# EAGLE library part HDSP-F*3 (library LED displeje)
LED displej 10 mm
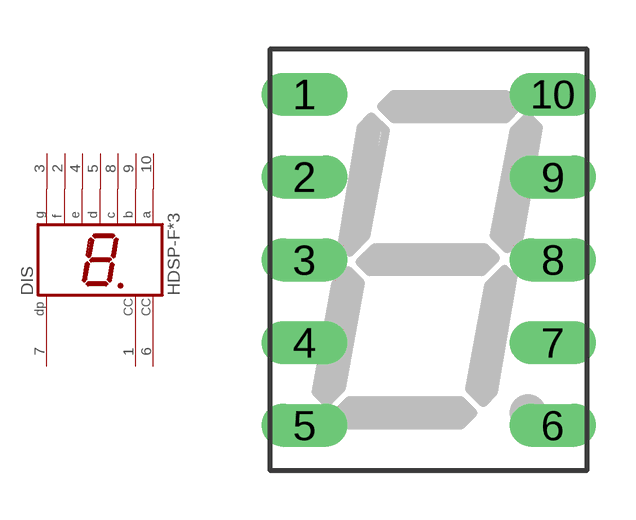
[diagram p49: symbol with the pads of HDSP-B; footprint HDSP-B]

Designator prefix DIS

## HDSP-F153, HDSP-F203, HDSP-F503  [HDSP-B]
1  CC  pas
2  F  pas
3  G  pas
4  E  pas
5  D  pas
6  CC  pas
7  DP  pas
8  C  pas
9  B  pas
10  A  pas

## Footprint HDSP-B (pad centres in mm)
drill 0.813 long: 1 -3.81,5.08; 2 -3.81,2.54; 3 -3.81,0; 4 -3.81,-2.54; 5 -3.81,-5.08; 6 3.81,-5.08; 7 3.81,-2.54; 8 3.81,0; 9 3.81,2.54; 10 3.81,5.08